# Altium integrated library TC2050-IDC-NL.IntLib: 1 symbol
Pins are listed as number, name and electrical type; pins without a type are passive.

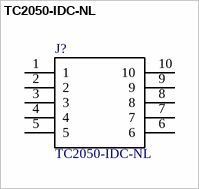
[diagram p0: symbol TC2050-IDC-NL]

## TC2050-IDC-NL
designator J?
CBL PLUG-OF-NAILS 10-PIN; MF: Tag-Connect LLC; Digi-Key_Purchase_URL: https://www.digikey.com/product-detail/en/tag-connect-llc/TC2050-IDC-NL/TC2050-IDC-NL-ND/2605367?utm_source=snapeda&utm_medium=aggregator&utm_campaign=symbol; Package: None; Digi-Key_Part_Number: TC2050-IDC-NL-ND; MP: TC2050-IDC-NL; SnapEDA_Link: https://www.snapeda.com/parts/TC2050-IDC-NL/Tag-Connect%20LLC/view-part/?ref=snap; Value: *
footprint *TAG-CONNECT_TC2050-IDC-NL
pins: 1, 2, 3, 4, 5, 6, 7, 8, 9, 10